# Altium schematic symbol library BLM21PG221SN1D.SchLib: 1 symbol
Pins are listed as number, name and electrical type; pins without a type are passive.

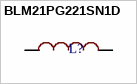
[diagram p0: symbol BLM21PG221SN1D]

## BLM21PG221SN1D
designator L?, comment 1.5uH  (value not drawn)
value: 2.5uH; value: 3.3uH; value: 3.9uH; value: 4.7uH; value: 5.6uH; value: 6.8uH; value: 7.5uH; value: 8.2uH; value: 10uH; value: 12uH; value: 15uH; value: 18uH; value: 22uH; value: 27uH; value: 33uH; value: 39uH; value: 47uH; value: 56uH; value: 68uH; value: 82uH; value: 100uH; value: 120uH; value: 150uH; value: 180uH; value: 220uH; value: 270uH; value: 330uH; value: 390uH; value: 470uH; value: 560uH; value: 680uH; value: 820uH; value: 1000uH; value: 1200uH; value: 1500uH; value: 1800uH; value: 2200uH; value: 2700uH; value: 3300uH; value: 3900uH; value: 4700uH; value: 1.5uH
footprint L0805
pins: 1, 2